# EAGLE library part DM13A-SOP24 (library DM13A-SOP24)
16-bit Constant Current LED Driver Source: Datasheet <http://www.siti.com.tw/product/spec/LED/SP-DM13A-A.006.pdf>
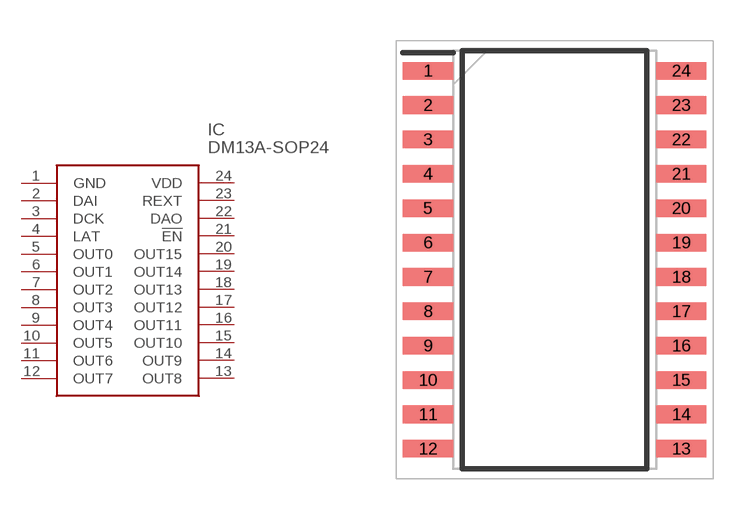
[diagram p0: symbol with the pads of SOIC127P1030X265-24N; footprint SOIC127P1030X265-24N]

Designator prefix IC

## DM13A-SOP24 (Description: 16-bit Constant Current LED Driver; Height: 2.65mm; Manufacturer_Name: Siti; Manufacturer_Part_Number: DM13A-SOP24)  [SOIC127P1030X265-24N]
1  GND
2  DAI
3  DCK
4  LAT
5  OUT0
6  OUT1
7  OUT2
8  OUT3
9  OUT4
10  OUT5
11  OUT6
12  OUT7
13  OUT8
14  OUT9
15  OUT10
16  OUT11
17  OUT12
18  OUT13
19  OUT14
20  OUT15
21  !EN
22  DAO
23  REXT
24  VDD

## Footprint SOIC127P1030X265-24N (pad centres in mm)
SOP24
smd 1.85 x 0.65: 1 -4.675,6.985; 2 -4.675,5.715; 3 -4.675,4.445; 4 -4.675,3.175; 5 -4.675,1.905; 6 -4.675,0.635; 7 -4.675,-0.635; 8 -4.675,-1.905; 9 -4.675,-3.175; 10 -4.675,-4.445; 11 -4.675,-5.715; 12 -4.675,-6.985; 13 4.675,-6.985; 14 4.675,-5.715; 15 4.675,-4.445; 16 4.675,-3.175; 17 4.675,-1.905; 18 4.675,-0.635; 19 4.675,0.635; 20 4.675,1.905; 21 4.675,3.175; 22 4.675,4.445; 23 4.675,5.715; 24 4.675,6.985